# EAGLE library part SMD-FPC-BOTTOM-CONTACT(12P-0.5) (library Seeed-OPL-Connector)
320060003
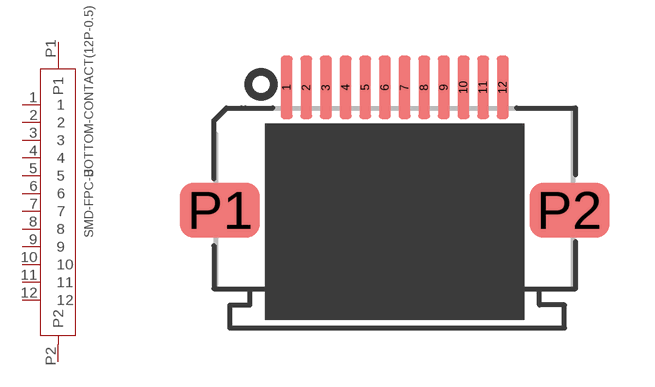
[diagram p60: symbol with the pads of FPCE12P-SMD-0.5-90D; footprint FPCE12P-SMD-0.5-90D]

Designator prefix J

## SMD-FPC-BOTTOM-CONTACT(12P-0.5) (MPN: FH12-12S-0.5SH(55); VALUE: 12p-smd-0.5-90d)  [FPCE12P-SMD-0.5-90D]
1  1
2  2
3  3
4  4
5  5
6  6
7  7
8  8
9  9
10  10
11  11
12  12
P1  P1
P2  P2

## Footprint FPCE12P-SMD-0.5-90D (pad centres in mm)
smd 0.3 x 1.6: 1 -2.75,3.127; 2 -2.25,3.127; 3 -1.75,3.127; 4 -1.25,3.127; 5 -0.75,3.127; 6 -0.25,3.127; 7 0.25,3.127; 8 0.75,3.127; 9 1.25,3.127; 10 1.75,3.127; 11 2.25,3.127; 12 2.75,3.127
smd 2.032 x 1.397: P1 -4.445,0; P2 4.445,0